# EAGLE library part XCFXXS (library Schuyler)
XCFxxS Xilinx Program Flash.
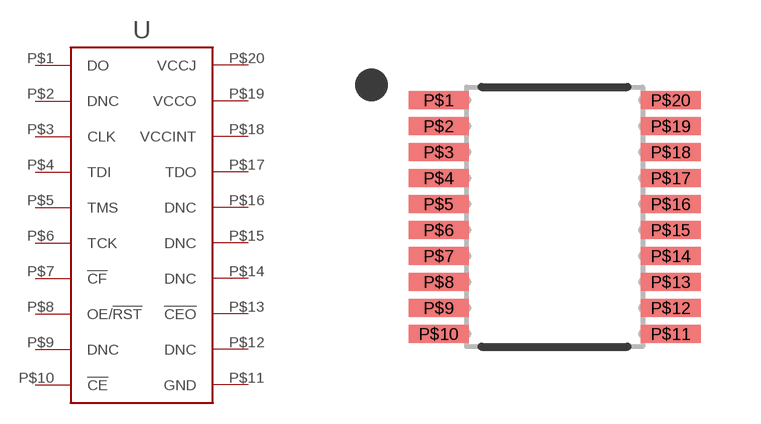
[diagram p15: symbol with the pads of TSSOP20_XILINX; footprint TSSOP20_XILINX]

Designator prefix U

## XCFXXS04 (MANPARTNUMBER: XCF04SVOG20C; MANUFACTURER: Xilinx inc; PARTNUMBER: 122-1288-5-ND; SUPPLIER: DIGIKEY)  [TSSOP20_XILINX]
P$1  DO
P$2  DNC  nc
P$3  CLK  in
P$4  TDI
P$5  TMS
P$6  TCK
P$7  !CF
P$8  OE/!RST
P$9  DNC  nc
P$10  !CE
P$11  GND  pwr
P$12  DNC  nc
P$13  !CEO
P$14  DNC  nc
P$15  DNC  nc
P$16  DNC  nc
P$17  TDO
P$18  VCCINT  pwr
P$19  VCCO  pwr
P$20  VCCJ  pwr

## Footprint TSSOP20_XILINX (pad centres in mm)
TSSOP described by Xilinx p 86 http://www.xilinx.com/support/documentation/user_guides/ug112.pdf
smd 1.5 x 0.45: P$1 -2.9,2.925; P$2 -2.9,2.275; P$3 -2.9,1.625; P$4 -2.9,0.975; P$5 -2.9,0.325; P$6 -2.9,-0.325; P$7 -2.9,-0.975; P$8 -2.9,-1.625; P$9 -2.9,-2.275; P$10 -2.9,-2.925; P$11 2.9,-2.925; P$12 2.9,-2.275; P$13 2.9,-1.625; P$14 2.9,-0.975; P$15 2.9,-0.325; P$16 2.9,0.325; P$17 2.9,0.975; P$18 2.9,1.625; P$19 2.9,2.275; P$20 2.9,2.925